# EAGLE library part DS1307 (library parts)
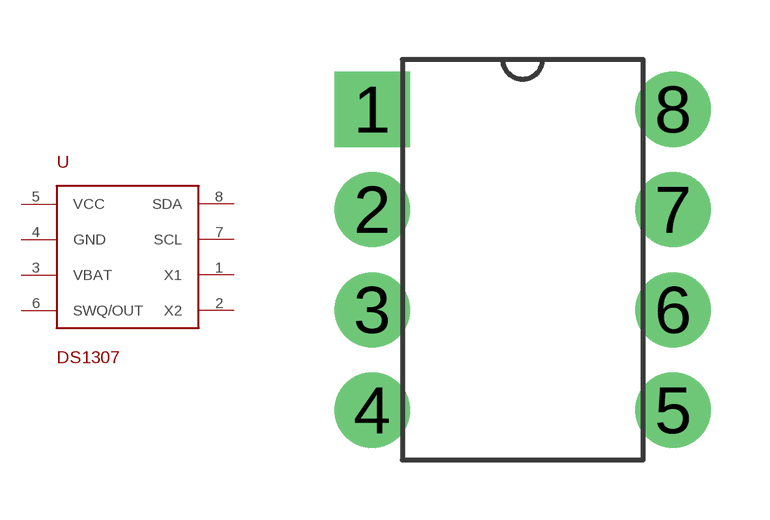
[diagram p1: symbol with the pads of MAXIM_DIP8; footprint MAXIM_DIP8]

Designator prefix -

## DS1307  [MAXIM_DIP8]
1  X1
2  X2
3  VBAT  pwr
4  GND  pwr
5  VCC  pwr
6  SWQ/OUT  out
7  SCL
8  SDA

## Footprint MAXIM_DIP8 (pad centres in mm)
drill 1.016 pad 1.905 square: 1 0,7.62
drill 1.016 pad 1.905: 2 0,5.08; 3 0,2.54; 4 0,0; 5 7.62,0; 6 7.62,2.54; 7 7.62,5.08; 8 7.62,7.62